# EAGLE library part ADC1175-50CIMTX/NOPB (library My_Library_SDR)
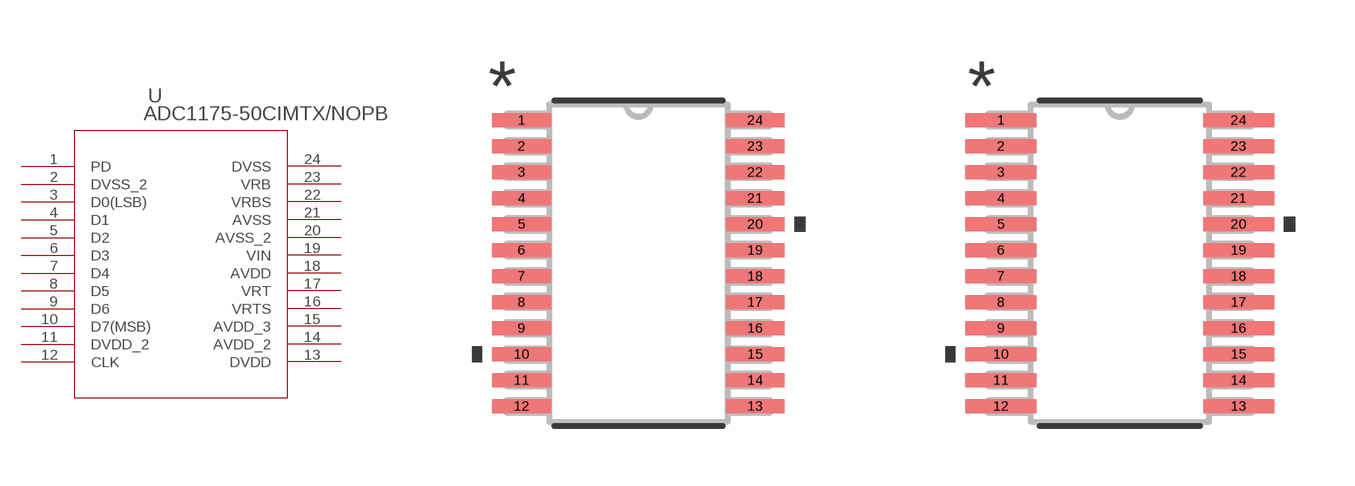
[diagram p5: symbol with the pads of PW24_TEX; footprints PW24_TEX, PW24_TEX-M]

Designator prefix U

## ADC1175-50CIMTX/NOPB (COPYRIGHT: Copyright (C) 2025 Ultra Librarian. All rights reserved.; MANUFACTURER_PART_NUMBER: ADC1175-50CIMTX/NOPB; MFR_NAME: Texas Instruments)  [PW24_TEX]
1  PD  pwr
2  DVSS_2  pwr
3  D0(LSB)  out
4  D1  out
5  D2  out
6  D3  out
7  D4  out
8  D5  out
9  D6  out
10  D7(MSB)  out
11  DVDD_2  pwr
12  CLK  in
13  DVDD  pwr
14  AVDD_2  pwr
15  AVDD_3  pwr
16  VRTS  in
17  VRT  in
18  AVDD  pwr
19  VIN  in
20  AVSS_2  pwr
21  AVSS  pwr
22  VRBS  in
23  VRB  in
24  DVSS  pwr

## ADC1175-50CIMTX/NOPBPW24_TEX-M (COPYRIGHT: Copyright (C) 2025 Ultra Librarian. All rights reserved.; MANUFACTURER_PART_NUMBER: ADC1175-50CIMTX/NOPB; MFR_NAME: Texas Instruments)  [PW24_TEX-M]
Pads as for PW24_TEX

## ADC1175-50CIMTX/NOPBPW24_TEX-L (COPYRIGHT: Copyright (C) 2025 Ultra Librarian. All rights reserved.; MANUFACTURER_PART_NUMBER: ADC1175-50CIMTX/NOPB; MFR_NAME: Texas Instruments)  [PW24_TEX-L]
Pads as for PW24_TEX

## Footprint PW24_TEX (pad centres in mm)
smd 1.473 x 0.356: 1 -2.921,3.575; 2 -2.921,2.925; 3 -2.921,2.275; 4 -2.921,1.625; 5 -2.921,0.975; 6 -2.921,0.325; 7 -2.921,-0.325; 8 -2.921,-0.975; 9 -2.921,-1.625; 10 -2.921,-2.275; 11 -2.921,-2.925; 12 -2.921,-3.575; 13 2.921,-3.575; 14 2.921,-2.925; 15 2.921,-2.275; 16 2.921,-1.625; 17 2.921,-0.975; 18 2.921,-0.325; 19 2.921,0.325; 20 2.921,0.975; 21 2.921,1.625; 22 2.921,2.275; 23 2.921,2.925; 24 2.921,3.575

## Footprint PW24_TEX-M (pad centres in mm)
smd 1.778 x 0.356: 1 -2.972,3.575; 2 -2.972,2.925; 3 -2.972,2.275; 4 -2.972,1.625; 5 -2.972,0.975; 6 -2.972,0.325; 7 -2.972,-0.325; 8 -2.972,-0.975; 9 -2.972,-1.625; 10 -2.972,-2.275; 11 -2.972,-2.925; 12 -2.972,-3.575; 13 2.972,-3.575; 14 2.972,-2.925; 15 2.972,-2.275; 16 2.972,-1.625; 17 2.972,-0.975; 18 2.972,-0.325; 19 2.972,0.325; 20 2.972,0.975; 21 2.972,1.625; 22 2.972,2.275; 23 2.972,2.925; 24 2.972,3.575

## Footprint PW24_TEX-L (pad centres in mm)
smd 1.168 x 0.305: 1 -2.87,3.575; 2 -2.87,2.925; 3 -2.87,2.275; 4 -2.87,1.625; 5 -2.87,0.975; 6 -2.87,0.325; 7 -2.87,-0.325; 8 -2.87,-0.975; 9 -2.87,-1.625; 10 -2.87,-2.275; 11 -2.87,-2.925; 12 -2.87,-3.575; 13 2.87,-3.575; 14 2.87,-2.925; 15 2.87,-2.275; 16 2.87,-1.625; 17 2.87,-0.975; 18 2.87,-0.325; 19 2.87,0.325; 20 2.87,0.975; 21 2.87,1.625; 22 2.87,2.275; 23 2.87,2.925; 24 2.87,3.575